# EAGLE library part F20F-10DP-1V (library Generic Connector)
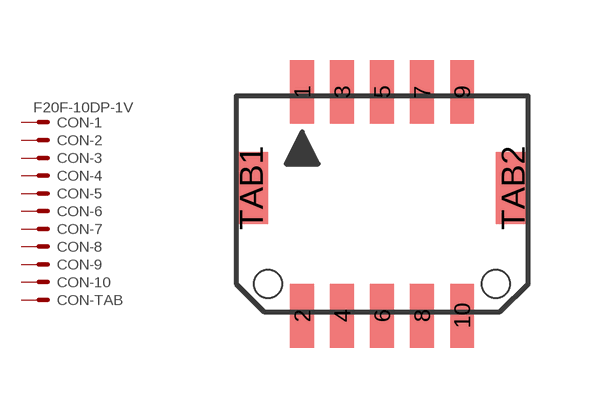
[diagram p0: symbol with the pads of F20F-10DP-1V; footprint F20F-10DP-1V]

Designator prefix CON; gates -2=K -3=K -4=K -5=K -6=K -7=K -8=K -9=K -10=K -TAB=K -1=KV

## F20F-10DP-1V  [F20F-10DP-1V]
1  -1:S  pas
2  -2:S  pas
3  -3:S  pas
4  -4:S  pas
5  -5:S  pas
6  -6:S  pas
7  -7:S  pas
8  -8:S  pas
9  -9:S  pas
10  -10:S  pas
TAB1  -TAB:S  pas
TAB2  -TAB:S  pas

## Footprint F20F-10DP-1V (pad centres in mm)
smd 0.6 x 1.6: 1 -2,2.8; 2 -2,-2.8; 3 -1,2.8; 4 -1,-2.8; 5 0,2.8; 6 0,-2.8; 7 1,2.8; 8 1,-2.8; 9 2,2.8; 10 2,-2.8
smd 0.85 x 1.8: TAB1 -3.275,0.4; TAB2 3.275,0.4
hole 0.7 at -2.85,-2.005
hole 0.7 at 2.85,-2.005